# EAGLE library part LISA (library commodore)
LISA is the AGA graphics controller found on A1200 and A4000 http://www.thule.no/haynie/chips/aa/lisaspec.pdf
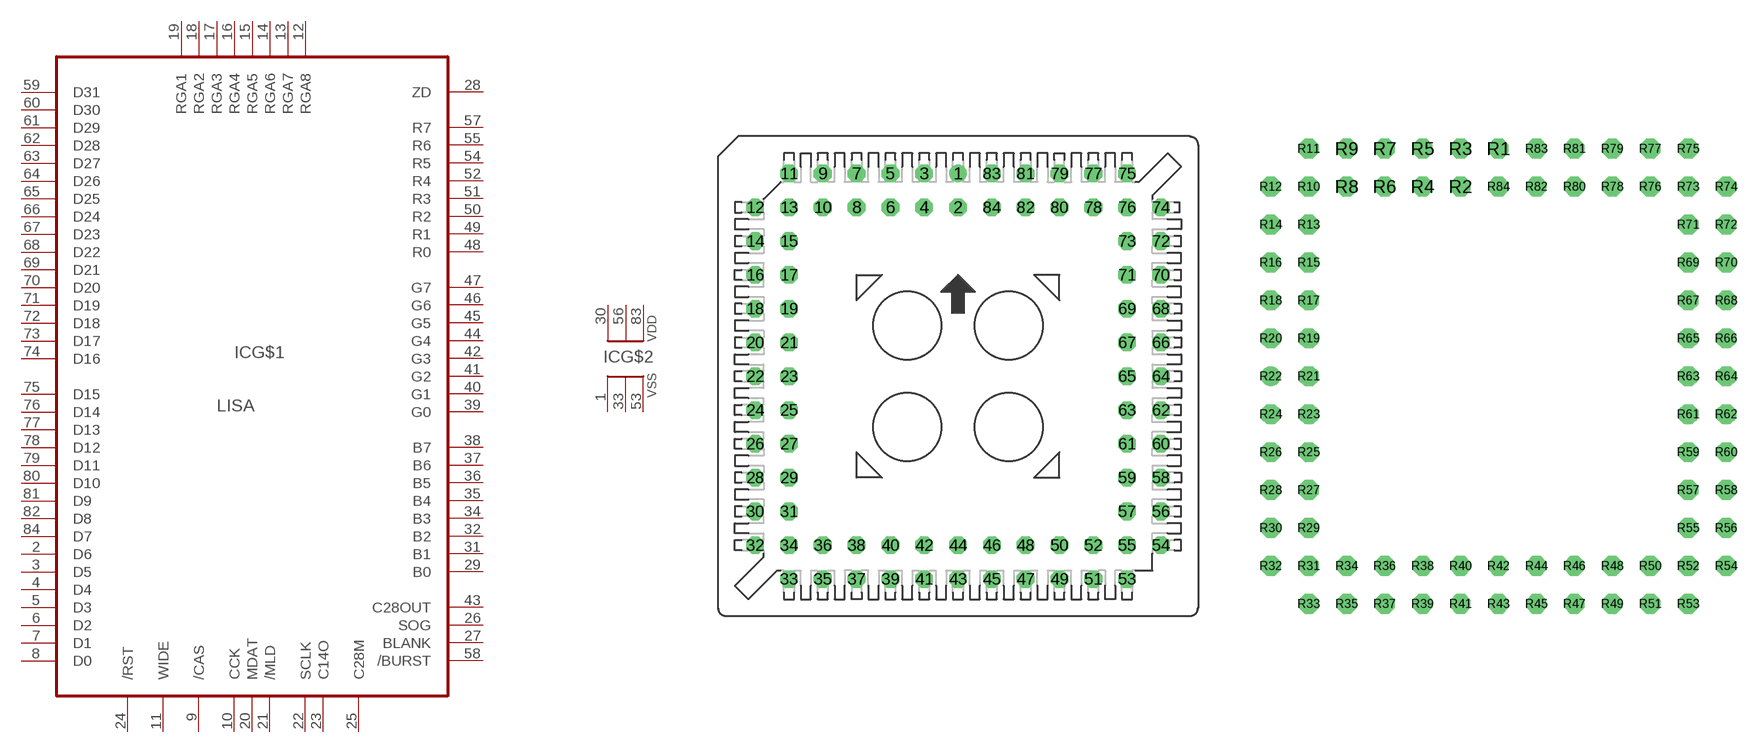
[diagram p0: symbol with the pads of S84; footprints S84, S84R]

Designator prefix IC; gates G$1=4203 G$2=LISA_POWER

## LISA  [S84]
1  G$2:VSS  pwr
2  G$1:D6
3  G$1:D5
4  G$1:D4
5  G$1:D3
6  G$1:D2
7  G$1:D1
8  G$1:D0
9  G$1:/CAS  in
10  G$1:CCK  in
11  G$1:WIDE  out
12  G$1:RGA8  in
13  G$1:RGA7  in
14  G$1:RGA6  in
15  G$1:RGA5  in
16  G$1:RGA4  in
17  G$1:RGA3  in
18  G$1:RGA2  in
19  G$1:RGA1  in
20  G$1:MDAT  in
21  G$1:/MLD  out
22  G$1:SCLK  out
23  G$1:C14O  out
24  G$1:/RST  in
25  G$1:C28M  in
26  G$1:SOG  out
27  G$1:BLANK  out
28  G$1:ZD  out
29  G$1:B0  out
30  G$2:VDD  pwr
31  G$1:B1  out
32  G$1:B2  out
33  G$2:VSS  pwr
34  G$1:B3  out
35  G$1:B4  out
36  G$1:B5  out
37  G$1:B6  out
38  G$1:B7  out
39  G$1:G0  out
40  G$1:G1  out
41  G$1:G2  out
42  G$1:G3  out
43  G$1:C28OUT  out
44  G$1:G4  out
45  G$1:G5  out
46  G$1:G6  out
47  G$1:G7  out
48  G$1:R0  out
49  G$1:R1  out
50  G$1:R2  out
51  G$1:R3  out
52  G$1:R4  out
53  G$2:VSS  pwr
54  G$1:R5  out
55  G$1:R6  out
56  G$2:VDD  pwr
57  G$1:R7  out
58  G$1:/BURST  out
59  G$1:D31
60  G$1:D30
61  G$1:D29
62  G$1:D28
63  G$1:D27
64  G$1:D26
65  G$1:D25
66  G$1:D24
67  G$1:D23
68  G$1:D22
69  G$1:D21
70  G$1:D20
71  G$1:D19
72  G$1:D18
73  G$1:D17
74  G$1:D16
75  G$1:D15
76  G$1:D14
77  G$1:D13
78  G$1:D12
79  G$1:D11
80  G$1:D10
81  G$1:D9
82  G$1:D8
83  G$2:VDD  pwr
84  G$1:D7

## LISA_R  [S84R]
R1  G$2:VSS  pwr
R2  G$1:D6
R3  G$1:D5
R4  G$1:D4
R5  G$1:D3
R6  G$1:D2
R7  G$1:D1
R8  G$1:D0
R9  G$1:/CAS  in
R10  G$1:CCK  in
R11  G$1:WIDE  out
R12  G$1:RGA8  in
R13  G$1:RGA7  in
R14  G$1:RGA6  in
R15  G$1:RGA5  in
R16  G$1:RGA4  in
R17  G$1:RGA3  in
R18  G$1:RGA2  in
R19  G$1:RGA1  in
R20  G$1:MDAT  in
R21  G$1:/MLD  out
R22  G$1:SCLK  out
R23  G$1:C14O  out
R24  G$1:/RST  in
R25  G$1:C28M  in
R26  G$1:SOG  out
R27  G$1:BLANK  out
R28  G$1:ZD  out
R29  G$1:B0  out
R30  G$2:VDD  pwr
R31  G$1:B1  out
R32  G$1:B2  out
R33  G$2:VSS  pwr
R34  G$1:B3  out
R35  G$1:B4  out
R36  G$1:B5  out
R37  G$1:B6  out
R38  G$1:B7  out
R39  G$1:G0  out
R40  G$1:G1  out
R41  G$1:G2  out
R42  G$1:G3  out
R43  G$1:C28OUT  out
R44  G$1:G4  out
R45  G$1:G5  out
R46  G$1:G6  out
R47  G$1:G7  out
R48  G$1:R0  out
R49  G$1:R1  out
R50  G$1:R2  out
R51  G$1:R3  out
R52  G$1:R4  out
R53  G$2:VSS  pwr
R54  G$1:R5  out
R55  G$1:R6  out
R56  G$2:VDD  pwr
R57  G$1:R7  out
R58  G$1:/BURST  out
R59  G$1:D31
R60  G$1:D30
R61  G$1:D29
R62  G$1:D28
R63  G$1:D27
R64  G$1:D26
R65  G$1:D25
R66  G$1:D24
R67  G$1:D23
R68  G$1:D22
R69  G$1:D21
R70  G$1:D20
R71  G$1:D19
R72  G$1:D18
R73  G$1:D17
R74  G$1:D16
R75  G$1:D15
R76  G$1:D14
R77  G$1:D13
R78  G$1:D12
R79  G$1:D11
R80  G$1:D10
R81  G$1:D9
R82  G$1:D8
R83  G$2:VDD  pwr
R84  G$1:D7

## LISA_AGA  [PLCC84]
Pads as for S84

## LISA_AGAR  [PLCC84_R]
Pads as for S84

## Footprint S84 (pad centres in mm)
PLCC SOCKET
drill 0.813 round: 1 0,15.24
drill 0.813 octagon: 2 0,12.7; 3 -2.54,15.24; 4 -2.54,12.7; 5 -5.08,15.24; 6 -5.08,12.7; 7 -7.62,15.24; 8 -7.62,12.7; 9 -10.16,15.24; 10 -10.16,12.7; 11 -12.7,15.24; 12 -15.24,12.7; 13 -12.7,12.7; 14 -15.24,10.16; 15 -12.7,10.16; 16 -15.24,7.62; 17 -12.7,7.62; 18 -15.24,5.08; 19 -12.7,5.08; 20 -15.24,2.54; 21 -12.7,2.54; 22 -15.24,0; 23 -12.7,0; 24 -15.24,-2.54; 25 -12.7,-2.54; 26 -15.24,-5.08; 27 -12.7,-5.08; 28 -15.24,-7.62; 29 -12.7,-7.62; 30 -15.24,-10.16; 31 -12.7,-10.16; 32 -15.24,-12.7; 33 -12.7,-15.24; 34 -12.7,-12.7; 35 -10.16,-15.24; 36 -10.16,-12.7; 37 -7.62,-15.24; 38 -7.62,-12.7; 39 -5.08,-15.24; 40 -5.08,-12.7; 41 -2.54,-15.24; 42 -2.54,-12.7; 43 0,-15.24; 44 0,-12.7; 45 2.54,-15.24; 46 2.54,-12.7; 47 5.08,-15.24; 48 5.08,-12.7; 49 7.62,-15.24; 50 7.62,-12.7; 51 10.16,-15.24; 52 10.16,-12.7; 53 12.7,-15.24; 54 15.24,-12.7; 55 12.7,-12.7; 56 15.24,-10.16; 57 12.7,-10.16; 58 15.24,-7.62; 59 12.7,-7.62; 60 15.24,-5.08; 61 12.7,-5.08; 62 15.24,-2.54; 63 12.7,-2.54; 64 15.24,0; 65 12.7,0; 66 15.24,2.54; 67 12.7,2.54; 68 15.24,5.08; 69 12.7,5.08; 70 15.24,7.62; 71 12.7,7.62; 72 15.24,10.16; 73 12.7,10.16; 74 15.24,12.7; 75 12.7,15.24; 76 12.7,12.7; 77 10.16,15.24; 78 10.16,12.7; 79 7.62,15.24; 80 7.62,12.7; 81 5.08,15.24; 82 5.08,12.7; 83 2.54,15.24; 84 2.54,12.7

## Footprint S84R (pad centres in mm)
MIRRORED PLCC SOCKET For piggy-back usage, mounted on solder side Filled arrow shows socket pin1 indicator, hollow arrow point to actual chip pin1
drill 0.813 octagon: R1 0,15.24; R2 -2.54,12.7; R3 -2.54,15.24; R4 -5.08,12.7; R5 -5.08,15.24; R6 -7.62,12.7; R7 -7.62,15.24; R8 -10.16,12.7; R9 -10.16,15.24; R10 -12.7,12.7; R11 -12.7,15.24; R12 -15.24,12.7; R13 -12.7,10.16; R14 -15.24,10.16; R15 -12.7,7.62; R16 -15.24,7.62; R17 -12.7,5.08; R18 -15.24,5.08; R19 -12.7,2.54; R20 -15.24,2.54; R21 -12.7,0; R23 -12.7,-2.54; R24 -15.24,-2.54; R25 -12.7,-5.08; R26 -15.24,-5.08; R27 -12.7,-7.62; R28 -15.24,-7.62; R29 -12.7,-10.16; R30 -15.24,-10.16; R31 -12.7,-12.7; R32 -15.24,-12.7; R33 -12.7,-15.24; R34 -10.16,-12.7; R35 -10.16,-15.24; R36 -7.62,-12.7; R37 -7.62,-15.24; R38 -5.08,-12.7; R39 -5.08,-15.24; R40 -2.54,-12.7; R41 -2.54,-15.24; R42 0,-12.7; R43 0,-15.24; R44 2.54,-12.7; R45 2.54,-15.24; R46 5.08,-12.7; R47 5.08,-15.24; R48 7.62,-12.7; R49 7.62,-15.24; R50 10.16,-12.7; R51 10.16,-15.24; R52 12.7,-12.7; R53 12.7,-15.24; R54 15.24,-12.7; R55 12.7,-10.16; R56 15.24,-10.16; R57 12.7,-7.62; R58 15.24,-7.62; R59 12.7,-5.08; R60 15.24,-5.08; R61 12.7,-2.54; R62 15.24,-2.54; R63 12.7,0; R64 15.24,0; R65 12.7,2.54; R66 15.24,2.54; R67 12.7,5.08; R68 15.24,5.08; R69 12.7,7.62; R70 15.24,7.62; R71 12.7,10.16; R72 15.24,10.16; R73 12.7,12.7; R74 15.24,12.7; R75 12.7,15.24; R76 10.16,12.7; R77 10.16,15.24; R78 7.62,12.7; R79 7.62,15.24; R80 5.08,12.7; R81 5.08,15.24; R82 2.54,12.7; R83 2.54,15.24; R84 0,12.7
drill 0.813 round: R22 -15.24,0

## Footprint PLCC84 (pad centres in mm)
PLASTIC LEADED CHIP CARRIER square
smd 0.76 x 1.8: 1 0,14.21; 2 -1.27,14.21; 3 -2.54,14.21; 4 -3.81,14.21; 5 -5.08,14.21; 6 -6.35,14.21; 7 -7.62,14.21; 8 -8.89,14.21; 9 -10.16,14.21; 10 -11.43,14.21; 11 -12.7,14.21; 33 -12.7,-14.21; 34 -11.43,-14.21; 35 -10.16,-14.21; 36 -8.89,-14.21; 37 -7.62,-14.21; 38 -6.35,-14.21; 39 -5.08,-14.21; 40 -3.81,-14.21; 41 -2.54,-14.21; 42 -1.27,-14.21; 43 0,-14.21; 44 1.27,-14.21; 45 2.54,-14.21; 46 3.81,-14.21; 47 5.08,-14.21; 48 6.35,-14.21; 49 7.62,-14.21; 50 8.89,-14.21; 51 10.16,-14.21; 52 11.43,-14.21; 53 12.7,-14.21; 75 12.7,14.21; 76 11.43,14.21; 77 10.16,14.21; 78 8.89,14.21; 79 7.62,14.21; 80 6.35,14.21; 81 5.08,14.21; 82 3.81,14.21; 83 2.54,14.21; 84 1.27,14.21
smd 1.8 x 0.76: 12 -14.21,12.7; 13 -14.21,11.43; 14 -14.21,10.16; 15 -14.21,8.89; 16 -14.21,7.62; 17 -14.21,6.35; 18 -14.21,5.08; 19 -14.21,3.81; 20 -14.21,2.54; 21 -14.21,1.27; 22 -14.21,0; 23 -14.21,-1.27; 24 -14.21,-2.54; 25 -14.21,-3.81; 26 -14.21,-5.08; 27 -14.21,-6.35; 28 -14.21,-7.62; 29 -14.21,-8.89; 30 -14.21,-10.16; 31 -14.21,-11.43; 32 -14.21,-12.7; 54 14.21,-12.7; 55 14.21,-11.43; 56 14.21,-10.16; 57 14.21,-8.89; 58 14.21,-7.62; 59 14.21,-6.35; 60 14.21,-5.08; 61 14.21,-3.81; 62 14.21,-2.54; 63 14.21,-1.27; 64 14.21,0; 65 14.21,1.27; 66 14.21,2.54; 67 14.21,3.81; 68 14.21,5.08; 69 14.21,6.35; 70 14.21,7.62; 71 14.21,8.89; 72 14.21,10.16; 73 14.21,11.43; 74 14.21,12.7

## Footprint PLCC84_R (pad centres in mm)
PLASTIC LEADED CHIP CARRIER SMD socket to be mounted from the solder side for piggy-back onto existing motherboard chip
smd 0.6 x 2.2 bottom: 1 0,14.5; 2 -1.27,14.5; 3 -2.54,14.5; 4 -3.81,14.5; 5 -5.08,14.5; 6 -6.35,14.5; 7 -7.62,14.5; 8 -8.89,14.5; 9 -10.16,14.5; 10 -11.43,14.5; 11 -12.7,14.5; 33 -12.7,-14.5; 34 -11.43,-14.5; 35 -10.16,-14.5; 36 -8.89,-14.5; 37 -7.62,-14.5; 38 -6.35,-14.5; 39 -5.08,-14.5; 40 -3.81,-14.5; 41 -2.54,-14.5; 42 -1.27,-14.5; 43 0,-14.5; 44 1.27,-14.5; 45 2.54,-14.5; 46 3.81,-14.5; 47 5.08,-14.5; 48 6.35,-14.5; 49 7.62,-14.5; 50 8.89,-14.5; 51 10.16,-14.5; 52 11.43,-14.5; 53 12.7,-14.5; 75 12.7,14.5; 76 11.43,14.5; 77 10.16,14.5; 78 8.89,14.5; 79 7.62,14.5; 80 6.35,14.5; 81 5.08,14.5; 82 3.81,14.5; 83 2.54,14.5; 84 1.27,14.5
smd 2.2 x 0.6 bottom: 12 -14.5,12.7; 13 -14.5,11.43; 14 -14.5,10.16; 15 -14.5,8.89; 16 -14.5,7.62; 17 -14.5,6.35; 18 -14.5,5.08; 19 -14.5,3.81; 20 -14.5,2.54; 21 -14.5,1.27; 22 -14.5,0; 23 -14.5,-1.27; 24 -14.5,-2.54; 25 -14.5,-3.81; 26 -14.5,-5.08; 27 -14.5,-6.35; 28 -14.5,-7.62; 29 -14.5,-8.89; 30 -14.5,-10.16; 31 -14.5,-11.43; 32 -14.5,-12.7; 54 14.5,-12.7; 55 14.5,-11.43; 56 14.5,-10.16; 57 14.5,-8.89; 58 14.5,-7.62; 59 14.5,-6.35; 60 14.5,-5.08; 61 14.5,-3.81; 62 14.5,-2.54; 63 14.5,-1.27; 64 14.5,0; 65 14.5,1.27; 66 14.5,2.54; 67 14.5,3.81; 68 14.5,5.08; 69 14.5,6.35; 70 14.5,7.62; 71 14.5,8.89; 72 14.5,10.16; 73 14.5,11.43; 74 14.5,12.7